# Altium footprint library Connectors_2mm.PcbLib: 81 footprints (part 2 of 6)
Each footprint in its own frame and in the unit in brackets; x right, y up, seen from the top. Pads: shape width x height; smd on the part's side, far side on the other; paste and mask are expansions set on the pad; w line width, h text height; cw(c..) or ccw(c..) is an arc to the next point about the centre after c.
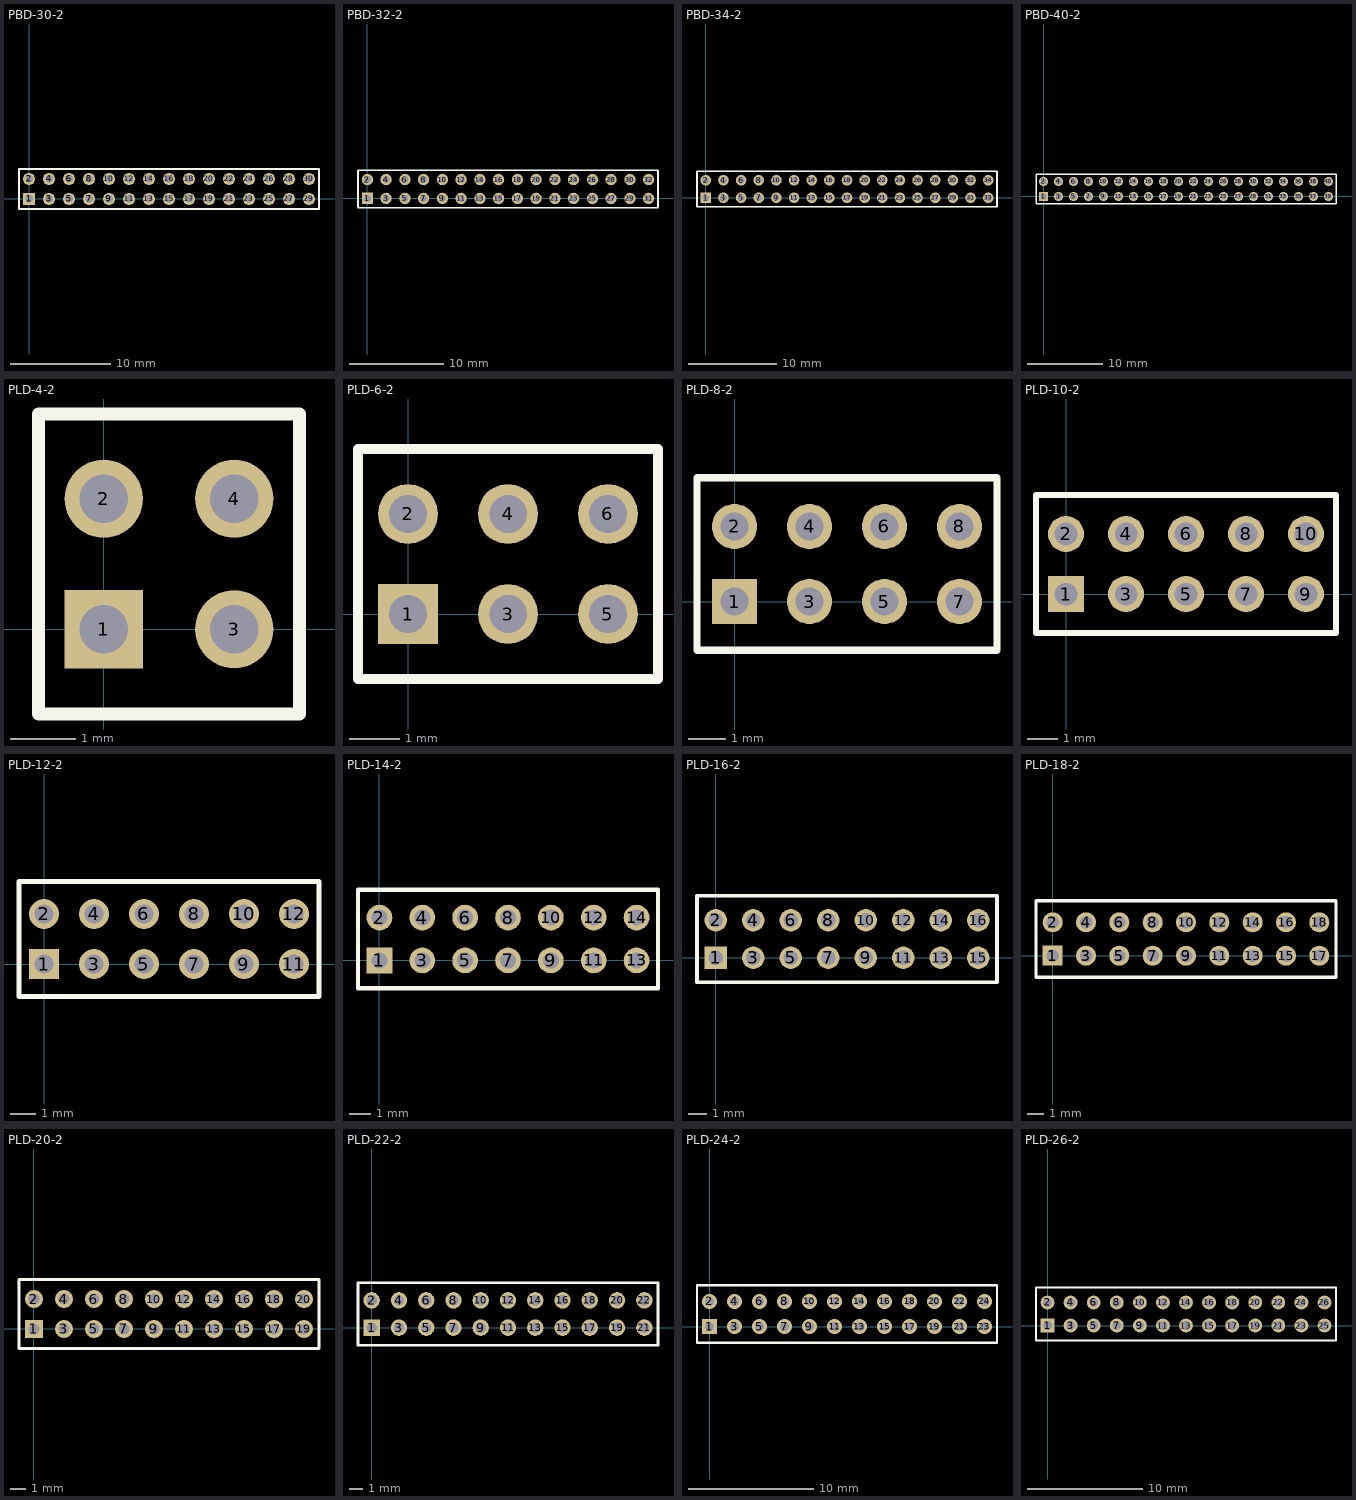
[diagram p1: the footprints below, top view; thin cyan lines are the x and y axes]

## PBD-30-2 [mm] "Connector; Header; 15x2 Position"
height 4.5
pads (30):
  rect 1.2x1.2 hole 0.75: 1(0,0)
  round 1.2 hole 0.75: 2(0,2) 3(2,0) 4(2,2) 5(4,0) 6(4,2) 7(6,0) 8(6,2) 9(8,0) 10(8,2) 11(10,0) 12(10,2) 13(12,0) 14(12,2) 15(14,0) 16(14,2) 17(16,0) 18(16,2) 19(18,0) 20(18,2) 21(20,0) 22(20,2) 23(22,0) 24(22,2) 25(24,0) 26(24,2) 27(26,0) 28(26,2) 29(28,0) 30(28,2)
Top Overlay:
  lines w0.2: -1,-1 29,-1 29,3 -1,3 -1,-1
3D body "PBD2mm.stp": height 4.5, standoff -2.7, extent 27,-1 29,3
3D body "PBD2mm.stp": height 4.5, standoff -2.7, extent 25,-1 27,3
3D body "PBD2mm.stp": height 4.5, standoff -2.7, extent 23,-1 25,3
3D body "PBD2mm.stp": height 4.5, standoff -2.7, extent 21,-1 23,3
3D body "PBD2mm.stp": height 4.5, standoff -2.7, extent 19,-1 21,3
3D body "PBD2mm.stp": height 4.5, standoff -2.7, extent 17,-1 19,3
3D body "PBD2mm.stp": height 4.5, standoff -2.7, extent 15,-1 17,3
3D body "PBD2mm.stp": height 4.5, standoff -2.7, extent 13,-1 15,3
3D body "PBD2mm.stp": height 4.5, standoff -2.7, extent 11,-1 13,3
3D body "PBD2mm.stp": height 4.5, standoff -2.7, extent 9,-1 11,3
3D body "PBD2mm.stp": height 4.5, standoff -2.7, extent 7,-1 9,3
3D body "PBD2mm.stp": height 4.5, standoff -2.7, extent 5,-1 7,3
3D body "PBD2mm.stp": height 4.5, standoff -2.7, extent 3,-1 5,3
3D body "PBD2mm.stp": height 4.5, standoff -2.7, extent 1,-1 3,3
3D body "PBD2mm.stp": height 4.5, standoff -2.7, extent -1,-1 1,3

## PBD-32-2 [mm] "Connector; Header; 16x2 Position"
height 4.5
pads (32):
  rect 1.2x1.2 hole 0.75: 1(0,0)
  round 1.2 hole 0.75: 2(0,2) 3(2,0) 4(2,2) 5(4,0) 6(4,2) 7(6,0) 8(6,2) 9(8,0) 10(8,2) 11(10,0) 12(10,2) 13(12,0) 14(12,2) 15(14,0) 16(14,2) 17(16,0) 18(16,2) 19(18,0) 20(18,2) 21(20,0) 22(20,2) 23(22,0) 24(22,2) 25(24,0) 26(24,2) 27(26,0) 28(26,2) 29(28,0) 30(28,2) 31(30,0) 32(30,2)
Top Overlay:
  lines w0.2: -1,-1 -1,3 31,3 31,-1 -1,-1
3D body "PBD2mm.stp": height 4.5, standoff -2.7, extent -1,-1 1,3
3D body "PBD2mm.stp": height 4.5, standoff -2.7, extent 1,-1 3,3
3D body "PBD2mm.stp": height 4.5, standoff -2.7, extent 3,-1 5,3
3D body "PBD2mm.stp": height 4.5, standoff -2.7, extent 5,-1 7,3
3D body "PBD2mm.stp": height 4.5, standoff -2.7, extent 7,-1 9,3
3D body "PBD2mm.stp": height 4.5, standoff -2.7, extent 9,-1 11,3
3D body "PBD2mm.stp": height 4.5, standoff -2.7, extent 11,-1 13,3
3D body "PBD2mm.stp": height 4.5, standoff -2.7, extent 13,-1 15,3
3D body "PBD2mm.stp": height 4.5, standoff -2.7, extent 15,-1 17,3
3D body "PBD2mm.stp": height 4.5, standoff -2.7, extent 17,-1 19,3
3D body "PBD2mm.stp": height 4.5, standoff -2.7, extent 19,-1 21,3
3D body "PBD2mm.stp": height 4.5, standoff -2.7, extent 21,-1 23,3
3D body "PBD2mm.stp": height 4.5, standoff -2.7, extent 23,-1 25,3
3D body "PBD2mm.stp": height 4.5, standoff -2.7, extent 25,-1 27,3
3D body "PBD2mm.stp": height 4.5, standoff -2.7, extent 27,-1 29,3
3D body "PBD2mm.stp": height 4.5, standoff -2.7, extent 29,-1 31,3

## PBD-34-2 [mm] "Connector; Header; 17x2 Position"
height 4.5
pads (34):
  rect 1.2x1.2 hole 0.75: 1(0,0)
  round 1.2 hole 0.75: 2(0,2) 3(2,0) 4(2,2) 5(4,0) 6(4,2) 7(6,0) 8(6,2) 9(8,0) 10(8,2) 11(10,0) 12(10,2) 13(12,0) 14(12,2) 15(14,0) 16(14,2) 17(16,0) 18(16,2) 19(18,0) 20(18,2) 21(20,0) 22(20,2) 23(22,0) 24(22,2) 25(24,0) 26(24,2) 27(26,0) 28(26,2) 29(28,0) 30(28,2) 31(30,0) 32(30,2) 33(32,0) 34(32,2)
Top Overlay:
  lines w0.2: -1,-1 33,-1 33,3 -1,3 -1,-1
3D body "PBD2mm.stp": height 4.5, standoff -2.7, extent 31,-1 33,3
3D body "PBD2mm.stp": height 4.5, standoff -2.7, extent 29,-1 31,3
3D body "PBD2mm.stp": height 4.5, standoff -2.7, extent 27,-1 29,3
3D body "PBD2mm.stp": height 4.5, standoff -2.7, extent 25,-1 27,3
3D body "PBD2mm.stp": height 4.5, standoff -2.7, extent 23,-1 25,3
3D body "PBD2mm.stp": height 4.5, standoff -2.7, extent 21,-1 23,3
3D body "PBD2mm.stp": height 4.5, standoff -2.7, extent 19,-1 21,3
3D body "PBD2mm.stp": height 4.5, standoff -2.7, extent 17,-1 19,3
3D body "PBD2mm.stp": height 4.5, standoff -2.7, extent 15,-1 17,3
3D body "PBD2mm.stp": height 4.5, standoff -2.7, extent 13,-1 15,3
3D body "PBD2mm.stp": height 4.5, standoff -2.7, extent 11,-1 13,3
3D body "PBD2mm.stp": height 4.5, standoff -2.7, extent 9,-1 11,3
3D body "PBD2mm.stp": height 4.5, standoff -2.7, extent 7,-1 9,3
3D body "PBD2mm.stp": height 4.5, standoff -2.7, extent 5,-1 7,3
3D body "PBD2mm.stp": height 4.5, standoff -2.7, extent 3,-1 5,3
3D body "PBD2mm.stp": height 4.5, standoff -2.7, extent 1,-1 3,3
3D body "PBD2mm.stp": height 4.5, standoff -2.7, extent -1,-1 1,3

## PBD-40-2 [mm] "Connector; Header; 20x2 Position"
height 4.5
pads (40):
  rect 1.2x1.2 hole 0.75: 1(0,0)
  round 1.2 hole 0.75: 2(0,2) 3(2,0) 4(2,2) 5(4,0) 6(4,2) 7(6,0) 8(6,2) 9(8,0) 10(8,2) 11(10,0) 12(10,2) 13(12,0) 14(12,2) 15(14,0) 16(14,2) 17(16,0) 18(16,2) 19(18,0) 20(18,2) 21(20,0) 22(20,2) 23(22,0) 24(22,2) 25(24,0) 26(24,2) 27(26,0) 28(26,2) 29(28,0) 30(28,2) 31(30,0) 32(30,2) 33(32,0) 34(32,2) 35(34,0) 36(34,2) 37(36,0) 38(36,2) 39(38,0) 40(38,2)
Top Overlay:
  lines w0.2: -1,-1 39,-1 39,3 -1,3 -1,-1
3D body "PBD2mm.stp": height 4.5, standoff -2.7, extent 37,-1 39,3
3D body "PBD2mm.stp": height 4.5, standoff -2.7, extent 35,-1 37,3
3D body "PBD2mm.stp": height 4.5, standoff -2.7, extent 33,-1 35,3
3D body "PBD2mm.stp": height 4.5, standoff -2.7, extent 31,-1 33,3
3D body "PBD2mm.stp": height 4.5, standoff -2.7, extent 29,-1 31,3
3D body "PBD2mm.stp": height 4.5, standoff -2.7, extent 27,-1 29,3
3D body "PBD2mm.stp": height 4.5, standoff -2.7, extent 25,-1 27,3
3D body "PBD2mm.stp": height 4.5, standoff -2.7, extent 23,-1 25,3
3D body "PBD2mm.stp": height 4.5, standoff -2.7, extent 21,-1 23,3
3D body "PBD2mm.stp": height 4.5, standoff -2.7, extent 19,-1 21,3
3D body "PBD2mm.stp": height 4.5, standoff -2.7, extent 17,-1 19,3
3D body "PBD2mm.stp": height 4.5, standoff -2.7, extent 15,-1 17,3
3D body "PBD2mm.stp": height 4.5, standoff -2.7, extent 13,-1 15,3
3D body "PBD2mm.stp": height 4.5, standoff -2.7, extent 11,-1 13,3
3D body "PBD2mm.stp": height 4.5, standoff -2.7, extent 9,-1 11,3
3D body "PBD2mm.stp": height 4.5, standoff -2.7, extent 7,-1 9,3
3D body "PBD2mm.stp": height 4.5, standoff -2.7, extent 5,-1 7,3
3D body "PBD2mm.stp": height 4.5, standoff -2.7, extent 3,-1 5,3
3D body "PBD2mm.stp": height 4.5, standoff -2.7, extent 1,-1 3,3
3D body "PBD2mm.stp": height 4.5, standoff -2.7, extent -1,-1 1,3

## PLD-4-2 [mm] "Connector; Header; 2x2 Position"
height 6
pads (4):
  rect 1.2x1.2 hole 0.75: 1(0,0)
  round 1.2 hole 0.75: 2(0,2) 3(2,0) 4(2,2)
Top Overlay:
  lines w0.2: -1,-1.3 3,-1.3 3,3.3 -1,3.3 -1,-1.3
3D body "pld-2mm.stp": height 5.5, standoff -2.5, extent -1,-1.3 1,3.3
3D body "pld-2mm.stp": height 5.5, standoff -2.5, extent 1,-1.3 3,3.3

## PLD-6-2 [mm] "Connector; Header; 3x2 Position"
height 6
pads (6):
  rect 1.2x1.2 hole 0.75: 1(0,0)
  round 1.2 hole 0.75: 2(0,2) 3(2,0) 4(2,2) 5(4,0) 6(4,2)
Top Overlay:
  lines w0.2: -1,-1.3 -1,3.3 5,3.3 5,-1.3 -1,-1.3
3D body "pld-2mm.stp": height 5.5, standoff -2.5, extent 3,-1.3 5,3.3
3D body "pld-2mm.stp": height 5.5, standoff -2.5, extent 1,-1.3 3,3.3
3D body "pld-2mm.stp": height 5.5, standoff -2.5, extent -1,-1.3 1,3.3

## PLD-8-2 [mm] "Connector; Header; 4x2 Position"
height 6
pads (8):
  rect 1.2x1.2 hole 0.75: 1(0,0)
  round 1.2 hole 0.75: 2(0,2) 3(2,0) 4(2,2) 5(4,0) 6(4,2) 7(6,0) 8(6,2)
Top Overlay:
  lines w0.2: -1,-1.3 7,-1.3 7,3.3 -1,3.3 -1,-1.3
3D body "pld-2mm.stp": height 5.5, standoff -2.5, extent -1,-1.3 1,3.3
3D body "pld-2mm.stp": height 5.5, standoff -2.5, extent 1,-1.3 3,3.3
3D body "pld-2mm.stp": height 5.5, standoff -2.5, extent 3,-1.3 5,3.3
3D body "pld-2mm.stp": height 5.5, standoff -2.5, extent 5,-1.3 7,3.3

## PLD-10-2 [mm] "Connector; Header; 5x2 Position"
height 6
pads (10):
  rect 1.2x1.2 hole 0.75: 1(0,0)
  round 1.2 hole 0.75: 2(0,2) 3(2,0) 4(2,2) 5(4,0) 6(4,2) 7(6,0) 8(6,2) 9(8,0) 10(8,2)
Top Overlay:
  lines w0.2: -1,-1.3 -1,3.3 9,3.3 9,-1.3 -1,-1.3
3D body "pld-2mm.stp": height 5.5, standoff -2.5, extent 7,-1.3 9,3.3
3D body "pld-2mm.stp": height 5.5, standoff -2.5, extent 5,-1.3 7,3.3
3D body "pld-2mm.stp": height 5.5, standoff -2.5, extent 3,-1.3 5,3.3
3D body "pld-2mm.stp": height 5.5, standoff -2.5, extent 1,-1.3 3,3.3
3D body "pld-2mm.stp": height 5.5, standoff -2.5, extent -1,-1.3 1,3.3

## PLD-12-2 [mm] "Connector; Header; 6x2 Position"
height 6
pads (12):
  rect 1.2x1.2 hole 0.75: 1(0,0)
  round 1.2 hole 0.75: 2(0,2) 3(2,0) 4(2,2) 5(4,0) 6(4,2) 7(6,0) 8(6,2) 9(8,0) 10(8,2) 11(10,0) 12(10,2)
Top Overlay:
  lines w0.2: -1,-1.3 11,-1.3 11,3.3 -1,3.3 -1,-1.3
3D body "pld-2mm.stp": height 5.5, standoff -2.5, extent -1,-1.3 1,3.3
3D body "pld-2mm.stp": height 5.5, standoff -2.5, extent 1,-1.3 3,3.3
3D body "pld-2mm.stp": height 5.5, standoff -2.5, extent 3,-1.3 5,3.3
3D body "pld-2mm.stp": height 5.5, standoff -2.5, extent 5,-1.3 7,3.3
3D body "pld-2mm.stp": height 5.5, standoff -2.5, extent 7,-1.3 9,3.3
3D body "pld-2mm.stp": height 5.5, standoff -2.5, extent 9,-1.3 11,3.3

## PLD-14-2 [mm] "Connector; Header; 7x2 Position"
height 6
pads (14):
  rect 1.2x1.2 hole 0.75: 1(0,0)
  round 1.2 hole 0.75: 2(0,2) 3(2,0) 4(2,2) 5(4,0) 6(4,2) 7(6,0) 8(6,2) 9(8,0) 10(8,2) 11(10,0) 12(10,2) 13(12,0) 14(12,2)
Top Overlay:
  lines w0.2: -1,-1.3 13,-1.3 13,3.3 -1,3.3 -1,-1.3
3D body "pld-2mm.stp": height 5.5, standoff -2.5, extent -1,-1.3 1,3.3
3D body "pld-2mm.stp": height 5.5, standoff -2.5, extent 1,-1.3 3,3.3
3D body "pld-2mm.stp": height 5.5, standoff -2.5, extent 3,-1.3 5,3.3
3D body "pld-2mm.stp": height 5.5, standoff -2.5, extent 5,-1.3 7,3.3
3D body "pld-2mm.stp": height 5.5, standoff -2.5, extent 7,-1.3 9,3.3
3D body "pld-2mm.stp": height 5.5, standoff -2.5, extent 9,-1.3 11,3.3
3D body "pld-2mm.stp": height 5.5, standoff -2.5, extent 11,-1.3 13,3.3

## PLD-16-2 [mm] "Connector; Header; 8x2 Position"
height 6
pads (16):
  rect 1.2x1.2 hole 0.75: 1(0,0)
  round 1.2 hole 0.75: 2(0,2) 3(2,0) 4(2,2) 5(4,0) 6(4,2) 7(6,0) 8(6,2) 9(8,0) 10(8,2) 11(10,0) 12(10,2) 13(12,0) 14(12,2) 15(14,0) 16(14,2)
Top Overlay:
  lines w0.2: -1,-1.3 15,-1.3 15,3.3 -1,3.3 -1,-1.3
3D body "pld-2mm.stp": height 5.5, standoff -2.5, extent -1,-1.3 1,3.3
3D body "pld-2mm.stp": height 5.5, standoff -2.5, extent 1,-1.3 3,3.3
3D body "pld-2mm.stp": height 5.5, standoff -2.5, extent 3,-1.3 5,3.3
3D body "pld-2mm.stp": height 5.5, standoff -2.5, extent 5,-1.3 7,3.3
3D body "pld-2mm.stp": height 5.5, standoff -2.5, extent 7,-1.3 9,3.3
3D body "pld-2mm.stp": height 5.5, standoff -2.5, extent 9,-1.3 11,3.3
3D body "pld-2mm.stp": height 5.5, standoff -2.5, extent 11,-1.3 13,3.3
3D body "pld-2mm.stp": height 5.5, standoff -2.5, extent 13,-1.3 15,3.3

## PLD-18-2 [mm] "Connector; Header; 9x2 Position"
height 6
pads (18):
  rect 1.2x1.2 hole 0.75: 1(0,0)
  round 1.2 hole 0.75: 2(0,2) 3(2,0) 4(2,2) 5(4,0) 6(4,2) 7(6,0) 8(6,2) 9(8,0) 10(8,2) 11(10,0) 12(10,2) 13(12,0) 14(12,2) 15(14,0) 16(14,2) 17(16,0) 18(16,2)
Top Overlay:
  lines w0.2: -1,-1.3 -1,3.3 17,3.3 17,-1.3 -1,-1.3
3D body "pld-2mm.stp": height 5.5, standoff -2.5, extent 15,-1.3 17,3.3
3D body "pld-2mm.stp": height 5.5, standoff -2.5, extent 13,-1.3 15,3.3
3D body "pld-2mm.stp": height 5.5, standoff -2.5, extent 11,-1.3 13,3.3
3D body "pld-2mm.stp": height 5.5, standoff -2.5, extent 9,-1.3 11,3.3
3D body "pld-2mm.stp": height 5.5, standoff -2.5, extent 7,-1.3 9,3.3
3D body "pld-2mm.stp": height 5.5, standoff -2.5, extent 5,-1.3 7,3.3
3D body "pld-2mm.stp": height 5.5, standoff -2.5, extent 3,-1.3 5,3.3
3D body "pld-2mm.stp": height 5.5, standoff -2.5, extent 1,-1.3 3,3.3
3D body "pld-2mm.stp": height 5.5, standoff -2.5, extent -1,-1.3 1,3.3

## PLD-20-2 [mm] "Connector; Header; 10x2 Position"
height 6
pads (20):
  rect 1.2x1.2 hole 0.75: 1(0,0)
  round 1.2 hole 0.75: 2(0,2) 3(2,0) 4(2,2) 5(4,0) 6(4,2) 7(6,0) 8(6,2) 9(8,0) 10(8,2) 11(10,0) 12(10,2) 13(12,0) 14(12,2) 15(14,0) 16(14,2) 17(16,0) 18(16,2) 19(18,0) 20(18,2)
Top Overlay:
  lines w0.2: -1,-1.3 19,-1.3 19,3.3 -1,3.3 -1,-1.3
3D body "pld-2mm.stp": height 5.5, standoff -2.5, extent -1,-1.3 1,3.3
3D body "pld-2mm.stp": height 5.5, standoff -2.5, extent 1,-1.3 3,3.3
3D body "pld-2mm.stp": height 5.5, standoff -2.5, extent 3,-1.3 5,3.3
3D body "pld-2mm.stp": height 5.5, standoff -2.5, extent 5,-1.3 7,3.3
3D body "pld-2mm.stp": height 5.5, standoff -2.5, extent 7,-1.3 9,3.3
3D body "pld-2mm.stp": height 5.5, standoff -2.5, extent 9,-1.3 11,3.3
3D body "pld-2mm.stp": height 5.5, standoff -2.5, extent 11,-1.3 13,3.3
3D body "pld-2mm.stp": height 5.5, standoff -2.5, extent 13,-1.3 15,3.3
3D body "pld-2mm.stp": height 5.5, standoff -2.5, extent 15,-1.3 17,3.3
3D body "pld-2mm.stp": height 5.5, standoff -2.5, extent 17,-1.3 19,3.3

## PLD-22-2 [mm] "Connector; Header; 11x2 Position"
height 6
pads (22):
  rect 1.2x1.2 hole 0.75: 1(0,0)
  round 1.2 hole 0.75: 2(0,2) 3(2,0) 4(2,2) 5(4,0) 6(4,2) 7(6,0) 8(6,2) 9(8,0) 10(8,2) 11(10,0) 12(10,2) 13(12,0) 14(12,2) 15(14,0) 16(14,2) 17(16,0) 18(16,2) 19(18,0) 20(18,2) 21(20,0) 22(20,2)
Top Overlay:
  lines w0.2: -1,-1.3 -1,3.3 21,3.3 21,-1.3 -1,-1.3
3D body "pld-2mm.stp": height 5.5, standoff -2.5, extent 19,-1.3 21,3.3
3D body "pld-2mm.stp": height 5.5, standoff -2.5, extent 17,-1.3 19,3.3
3D body "pld-2mm.stp": height 5.5, standoff -2.5, extent 15,-1.3 17,3.3
3D body "pld-2mm.stp": height 5.5, standoff -2.5, extent 13,-1.3 15,3.3
3D body "pld-2mm.stp": height 5.5, standoff -2.5, extent 11,-1.3 13,3.3
3D body "pld-2mm.stp": height 5.5, standoff -2.5, extent 9,-1.3 11,3.3
3D body "pld-2mm.stp": height 5.5, standoff -2.5, extent 7,-1.3 9,3.3
3D body "pld-2mm.stp": height 5.5, standoff -2.5, extent 5,-1.3 7,3.3
3D body "pld-2mm.stp": height 5.5, standoff -2.5, extent 3,-1.3 5,3.3
3D body "pld-2mm.stp": height 5.5, standoff -2.5, extent 1,-1.3 3,3.3
3D body "pld-2mm.stp": height 5.5, standoff -2.5, extent -1,-1.3 1,3.3

## PLD-24-2 [mm] "Connector; Header; 12x2 Position"
height 6
pads (24):
  rect 1.2x1.2 hole 0.75: 1(0,0)
  round 1.2 hole 0.75: 2(0,2) 3(2,0) 4(2,2) 5(4,0) 6(4,2) 7(6,0) 8(6,2) 9(8,0) 10(8,2) 11(10,0) 12(10,2) 13(12,0) 14(12,2) 15(14,0) 16(14,2) 17(16,0) 18(16,2) 19(18,0) 20(18,2) 21(20,0) 22(20,2) 23(22,0) 24(22,2)
Top Overlay:
  lines w0.2: -1,-1.3 23,-1.3 23,3.3 -1,3.3 -1,-1.3
3D body "pld-2mm.stp": height 5.5, standoff -2.5, extent -1,-1.3 1,3.3
3D body "pld-2mm.stp": height 5.5, standoff -2.5, extent 1,-1.3 3,3.3
3D body "pld-2mm.stp": height 5.5, standoff -2.5, extent 3,-1.3 5,3.3
3D body "pld-2mm.stp": height 5.5, standoff -2.5, extent 5,-1.3 7,3.3
3D body "pld-2mm.stp": height 5.5, standoff -2.5, extent 7,-1.3 9,3.3
3D body "pld-2mm.stp": height 5.5, standoff -2.5, extent 9,-1.3 11,3.3
3D body "pld-2mm.stp": height 5.5, standoff -2.5, extent 11,-1.3 13,3.3
3D body "pld-2mm.stp": height 5.5, standoff -2.5, extent 13,-1.3 15,3.3
3D body "pld-2mm.stp": height 5.5, standoff -2.5, extent 15,-1.3 17,3.3
3D body "pld-2mm.stp": height 5.5, standoff -2.5, extent 17,-1.3 19,3.3
3D body "pld-2mm.stp": height 5.5, standoff -2.5, extent 19,-1.3 21,3.3
3D body "pld-2mm.stp": height 5.5, standoff -2.5, extent 21,-1.3 23,3.3

## PLD-26-2 [mm] "Connector; Header; 13x2 Position"
height 6
pads (26):
  rect 1.2x1.2 hole 0.75: 1(0,0)
  round 1.2 hole 0.75: 2(0,2) 3(2,0) 4(2,2) 5(4,0) 6(4,2) 7(6,0) 8(6,2) 9(8,0) 10(8,2) 11(10,0) 12(10,2) 13(12,0) 14(12,2) 15(14,0) 16(14,2) 17(16,0) 18(16,2) 19(18,0) 20(18,2) 21(20,0) 22(20,2) 23(22,0) 24(22,2) 25(24,0) 26(24,2)
Top Overlay:
  lines w0.2: -1,-1.3 -1,3.3 25,3.3 25,-1.3 -1,-1.3
3D body "pld-2mm.stp": height 5.5, standoff -2.5, extent 23,-1.3 25,3.3
3D body "pld-2mm.stp": height 5.5, standoff -2.5, extent 21,-1.3 23,3.3
3D body "pld-2mm.stp": height 5.5, standoff -2.5, extent 19,-1.3 21,3.3
3D body "pld-2mm.stp": height 5.5, standoff -2.5, extent 17,-1.3 19,3.3
3D body "pld-2mm.stp": height 5.5, standoff -2.5, extent 15,-1.3 17,3.3
3D body "pld-2mm.stp": height 5.5, standoff -2.5, extent 13,-1.3 15,3.3
3D body "pld-2mm.stp": height 5.5, standoff -2.5, extent 11,-1.3 13,3.3
3D body "pld-2mm.stp": height 5.5, standoff -2.5, extent 9,-1.3 11,3.3
3D body "pld-2mm.stp": height 5.5, standoff -2.5, extent 7,-1.3 9,3.3
3D body "pld-2mm.stp": height 5.5, standoff -2.5, extent 5,-1.3 7,3.3
3D body "pld-2mm.stp": height 5.5, standoff -2.5, extent 3,-1.3 5,3.3
3D body "pld-2mm.stp": height 5.5, standoff -2.5, extent 1,-1.3 3,3.3
3D body "pld-2mm.stp": height 5.5, standoff -2.5, extent -1,-1.3 1,3.3